# EAGLE library part X-BIMU (library x-io-EAGLE-Library)
x-BIMU <http://www.x-io.co.uk/products/x-bimu/> foot print for SMD or through-hole headers.
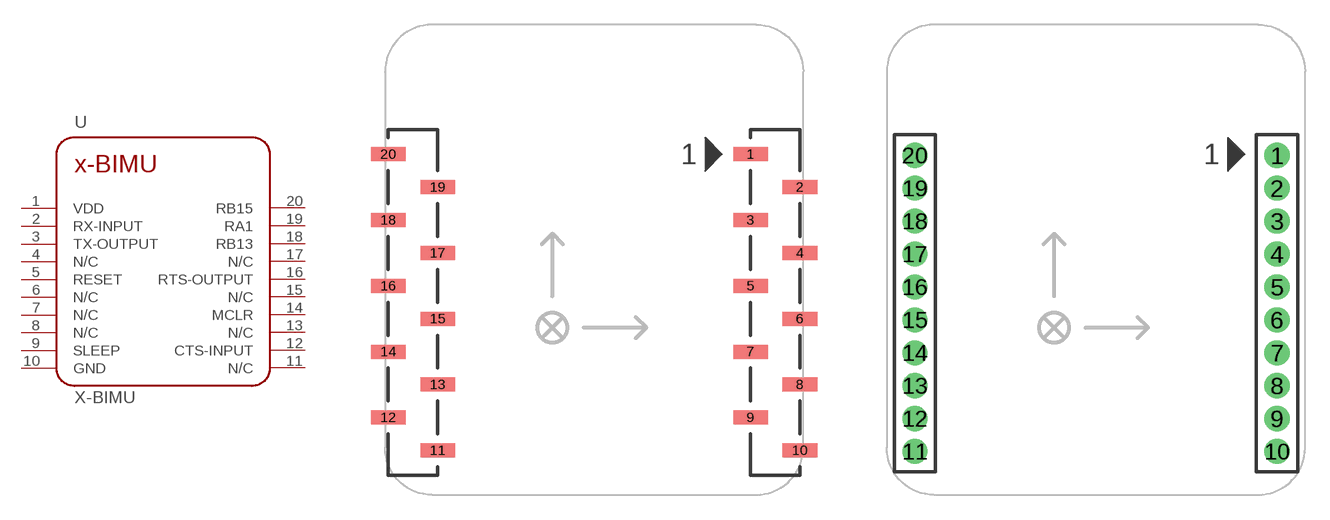
[diagram p1: symbol with the pads of X-BIMU_SMD; footprints X-BIMU_SMD, X-BIMU_TH]

Designator prefix -

## X-BIMU-SMD  [X-BIMU_SMD]
1  VDD
2  RX-INPUT
3  TX-OUTPUT
4  N/C
5  RESET
6  N/C
7  N/C
8  N/C
9  SLEEP
10  GND
11  N/C
12  CTS-INPUT
13  N/C
14  MCLR
15  N/C
16  RTS-OUTPUT
17  N/C
18  RB13
19  RA1
20  RB15

## X-BIMU-TH  [X-BIMU_TH]
Pads as for X-BIMU_SMD

## Footprint X-BIMU_SMD (pad centres in mm)
Surface mount foot print for x-BIMU <http://www.x-io.co.uk/products/x-bimu/>. Comprised of two low-profile male headers, Part number: SLT1-10B2-R039 <http://www.toby.co.uk/content/catalogue/products.aspx?series=SLT1-xx-B1-R-039> from Toby Electronics.
smd 2.1 x 0.85: 1 9.5,8; 2 12.5,6; 3 9.5,4; 4 12.5,2; 5 9.5,0; 6 12.5,-2; 7 9.5,-4; 8 12.5,-6; 9 9.5,-8; 10 12.5,-10; 11 -9.5,-10; 12 -12.5,-8; 13 -9.5,-6; 14 -12.5,-4; 15 -9.5,-2; 16 -12.5,0; 17 -9.5,2; 18 -12.5,4; 19 -9.5,6; 20 -12.5,8

## Footprint X-BIMU_TH (pad centres in mm)
Through-hole foot print for x-BIMU <http://www.x-io.co.uk/products/x-bimu/>. Comprised of two low-profile male headers, Part number: PRT-10112 <https://www.sparkfun.com/products/10112> from sparkfun.
drill 0.8 pad 1.524: 1 11,7.935; 2 11,5.935; 3 11,3.935; 4 11,1.935; 5 11,-0.065; 6 11,-2.065; 7 11,-4.065; 8 11,-6.065; 9 11,-8.065; 10 11,-10.065; 11 -11,-10.065; 12 -11,-8.065; 13 -11,-6.065; 14 -11,-4.065; 15 -11,-2.065; 16 -11,-0.065; 17 -11,1.935; 18 -11,3.935; 19 -11,5.935; 20 -11,7.935